# EAGLE library part UCB1400BE (library UCB1400)
The UCB1400 is a stereo audio codec equipped with touch screen and power management interfaces. It integrates an AC ?97 Rev. 2.1 interface for communication to an AC link host controller such as the Intel Xscale? processor. The stereo audio codec inputs connect directly to a microphone or line level sources such as a CD player. The stereo audio codec outputs at line level and can drive a headphone directly. The touch screen interface connects directly to a 4-wire resistive touch screen. A built-in 10-bit analog-to-digital converter provides readout of touch screen and power management parameters. Ten general-purpose I/O pins provide programmable inputs and/or outputs to the system. 48-pin LQFP surface mount package and low external component count for minimal PCB space requirement Please send any comments to: jpm1@gmx.net
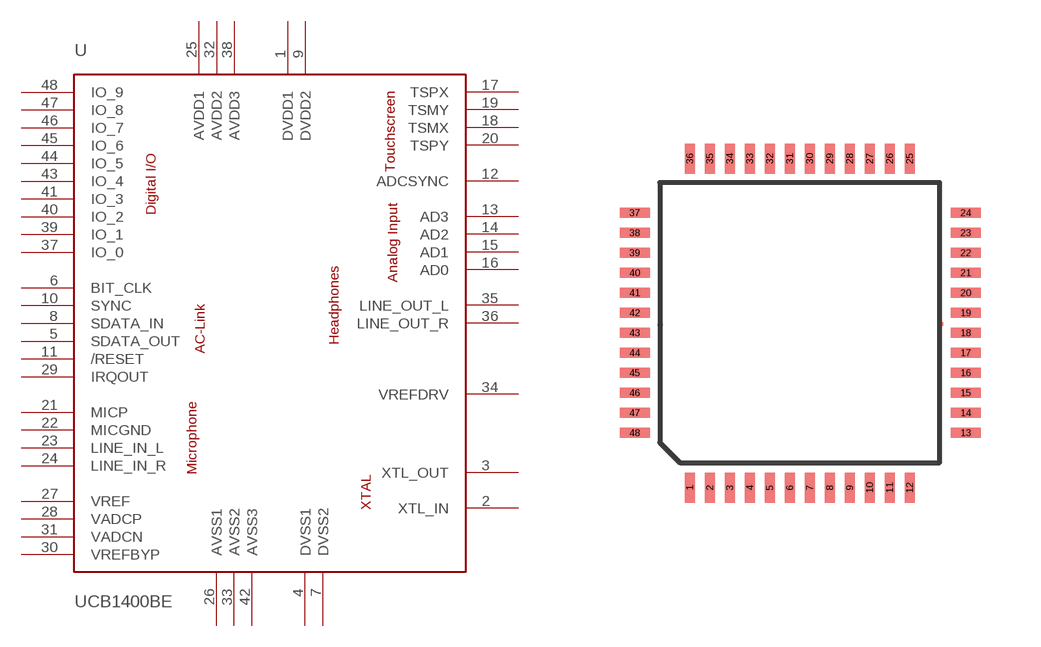
[diagram p0: symbol with the pads of QFP48_SOT313-2; footprint QFP48_SOT313-2]

Designator prefix -

## UCB1400BE  [QFP48_SOT313-2]
1  DVDD1  pwr
2  XTL_IN  in
3  XTL_OUT  out
4  DVSS1  pwr
5  SDATA_OUT  out
6  BIT_CLK  out
7  DVSS2  pwr
8  SDATA_IN  in
9  DVDD2  pwr
10  SYNC  in
11  /RESET  in
12  ADCSYNC  in
13  AD3  in
14  AD2  in
15  AD1  in
16  AD0  in
17  TSPX
18  TSMX
19  TSMY
20  TSPY
21  MICP  in
22  MICGND  in
23  LINE_IN_L  in
24  LINE_IN_R  in
25  AVDD1  pwr
26  AVSS1  pwr
27  VREF  pwr
28  VADCP  pwr
29  IRQOUT  out
30  VREFBYP  pwr
31  VADCN  pwr
32  AVDD2  pwr
33  AVSS2  pwr
34  VREFDRV  pwr
35  LINE_OUT_L  out
36  LINE_OUT_R  out
37  IO_0
38  AVDD3  pwr
39  IO_1
40  IO_2
41  IO_3
42  AVSS3  pwr
43  IO_4
44  IO_5
45  IO_6
46  IO_7
47  IO_8
48  IO_9

## Footprint QFP48_SOT313-2 (pad centres in mm)
LQFP48: plastic low profile quad flat package 48 leads body 7 x 7 x 1.4 mm Please send any comments to: jpm1@gmx.net
smd 0.25 x 0.75: 1 -2.75,-4.125; 2 -2.25,-4.125; 3 -1.75,-4.125; 4 -1.25,-4.125; 5 -0.75,-4.125; 6 -0.25,-4.125; 7 0.25,-4.125; 8 0.75,-4.125; 9 1.25,-4.125; 10 1.75,-4.125; 11 2.25,-4.125; 12 2.75,-4.125; 25 2.75,4.105; 26 2.25,4.105; 27 1.75,4.105; 28 1.25,4.105; 29 0.75,4.105; 30 0.25,4.105; 31 -0.25,4.105; 32 -0.75,4.105; 33 -1.25,4.105; 34 -1.75,4.105; 35 -2.25,4.105; 36 -2.75,4.105
smd 0.75 x 0.25: 13 4.155,-2.75; 14 4.155,-2.25; 15 4.155,-1.75; 16 4.155,-1.25; 17 4.155,-0.75; 18 4.155,-0.25; 19 4.155,0.25; 20 4.155,0.75; 21 4.155,1.25; 22 4.155,1.75; 23 4.155,2.25; 24 4.155,2.75; 37 -4.125,2.75; 38 -4.125,2.25; 39 -4.125,1.75; 40 -4.125,1.25; 41 -4.125,0.75; 42 -4.125,0.25; 43 -4.125,-0.25; 44 -4.125,-0.75; 45 -4.125,-1.25; 46 -4.125,-1.75; 47 -4.125,-2.25; 48 -4.125,-2.75